# EAGLE library part DRV135 (library balto)
Audio Balanced Line Driver
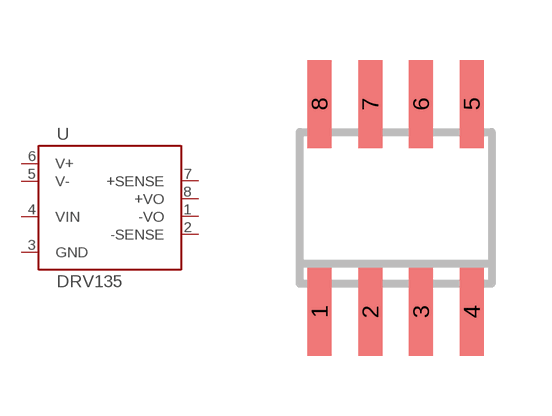
[diagram p34: symbol with the pads of SOIC8; footprint SOIC8]

Designator prefix U

## DRV135U  [SOIC8]
1  -VO
2  -SENSE
3  GND
4  VIN
5  V-
6  V+
7  +SENSE
8  +VO

## Footprint SOIC8 (pad centres in mm)
Small Outline IC
smd 0.6 x 2.2: 1 -1.905,-2.6; 2 -0.635,-2.6; 3 0.635,-2.6; 4 1.905,-2.6; 5 1.905,2.6; 6 0.635,2.6; 7 -0.635,2.6; 8 -1.905,2.6